# Altium footprint library Power_Board_Parts_Library.PcbLib: 7 footprints
Each footprint in its own frame and in the unit in brackets; x right, y up, seen from the top. Pads: shape width x height; smd on the part's side, far side on the other; paste and mask are expansions set on the pad; w line width, h text height; cw(c..) or ccw(c..) is an arc to the next point about the centre after c.
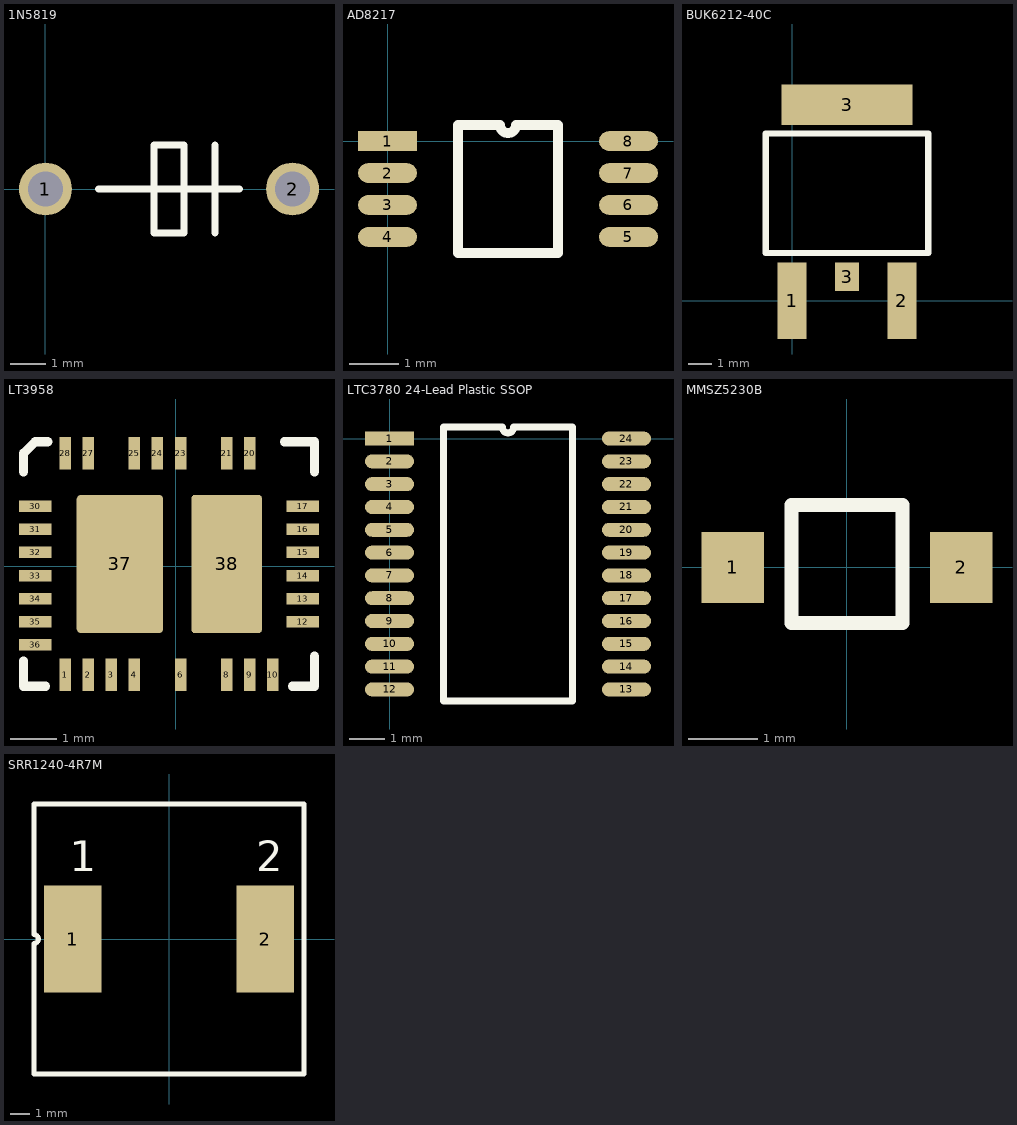
[diagram p0: the footprints below, top view; thin cyan lines are the x and y axes]

## 1N5819 [mm]
pads (2):
  round 1.5 hole 1: 1(0,0) 2(7,0)
Top Overlay:
  lines w0.2: 1.5,0 3.925,0 ; 3.075,0 5.5,0 ; 4.808,-1.25 4.808,1.25 ; 3.925,0 3.925,1.25 3.075,1.25 3.075,-1.25 3.925,-1.25 3.925,0

## AD8217 [mm]
height 1.1
pads (8):
  rect 1.2x0.4 smd: 1(0,0)
  oval 1.2x0.4 smd: 2(0,-0.65) 3(0,-1.3) 4(0,-1.95) 5(4.9,-1.95) 6(4.9,-1.3) 7(4.9,-0.65) 8(4.9,0)
Top Overlay:
  lines w0.2: 1.435,-2.275 1.435,0.325 2.288,0.325 ccw(c2.45,0.325) 2.612,0.325 3.465,0.325 3.465,-2.275 1.435,-2.275

## BUK6212-40C [mm]
height 2.4
pads (4):
  rect 1.2x3.2 smd: 1(0,0) 2(4.6,0)
  rect 1x1.2 smd: 3(2.3,1)
  rect 5.5x1.7 smd: 3(2.3,8.2)
Top Overlay:
  lines w0.254: -1.1,2 -1.1,7 5.7,7 5.7,2 -1.1,2

## LT3958 [mm]
pads (30):
  rect 0.25x0.7 smd mask+0.085: 1(-2.4,-2.35)
  rect 0.25x0.7 smd: 2(-1.9,-2.35) 3(-1.4,-2.35) 4(-0.9,-2.35) 6(0.1,-2.35) 8(1.1,-2.35) 9(1.6,-2.35) 10(2.1,-2.35) 20(1.6,2.45) 21(1.1,2.45) 23(0.1,2.45) 24(-0.4,2.45) 25(-0.9,2.45) 27(-1.9,2.45) 28(-2.4,2.45)
  rect 0.7x0.25 smd: 12(2.75,-1.2) 13(2.75,-0.7) 14(2.75,-0.2) 15(2.75,0.3) 16(2.75,0.8) 17(2.75,1.3) 30(-3.05,1.3) 31(-3.05,0.8) 32(-3.05,0.3) 33(-3.05,-0.2) 34(-3.05,-0.7) 35(-3.05,-1.2)
  rect 0.7x0.25 smd mask+0.085: 36(-3.05,-1.7)
  rrect10% 1.875x3 smd: 37(-1.212,0.05)
  rrect10% 1.53x3 smd paste+0: 38(1.1,0.05)
Top Overlay:
  lines w0.2: -3.3,-2.05 -3.3,-2.6 -2.825,-2.6 ; -3.3,2.05 -3.3,2.45 -3.05,2.7 -2.775,2.7 ; 2.35,2.7 3,2.7 3,2.05 ; 2.525,-2.6 3,-2.6 3,-1.95

## LTC3780 24-Lead Plastic SSOP [mm]
height 2
pads (24):
  rect 1.4x0.4 smd: 1(0,0)
  oval 1.4x0.4 smd: 2(0,-0.65) 3(0,-1.3) 4(0,-1.95) 5(0,-2.6) 6(0,-3.25) 7(0,-3.9) 8(0,-4.55) 9(0,-5.2) 10(0,-5.85) 11(0,-6.5) 12(0,-7.15) 13(6.75,-7.15) 14(6.75,-6.5) 15(6.75,-5.85) 16(6.75,-5.2) 17(6.75,-4.55) 18(6.75,-3.9) 19(6.75,-3.25) 20(6.75,-2.6) 21(6.75,-1.95) 22(6.75,-1.3) 23(6.75,-0.65) 24(6.75,0)
Top Overlay:
  lines w0.2: 1.535,-7.475 5.215,-7.475 5.215,0.325 3.537,0.325 cw(c3.375,0.325) 3.213,0.325 1.535,0.325 1.535,-7.475

## MMSZ5230B [mm]
pads (2):
  rect 0.9x1.025 smd: 1(-1.65,0) 2(1.65,0)
Top Overlay:
  lines w0.2: -0.8,-0.8 -0.8,0.15 -0.8,0.35 -0.8,0.75 -0.8,0.9 0.8,0.9 0.8,-0.8 -0.8,-0.8

## SRR1240-4R7M [mm]
pads (2):
  rect 2.9x5.4 smd: 1(-4.85,0) 2(4.85,0)
Top Overlay:
  lines w0.254: -6.8,-0.3 -6.8,-3.4 -6.8,-6.8 6.8,-6.8 6.8,6.8 -6.8,6.8 -6.8,3.4 -6.8,0.3 ; -6.8,-0.224 ccw(c-6.8,0) -6.8,0.224
  text "2" at 4.4,3.4 h1.52
  text "1" at -5,3.4 h1.52
  text "1" at -5,3.4 h1.52